# Altium schematic symbol library SCH - DIODES - DIODE TVS.SCHLIB: 2 symbols
Pins are listed as number, name and electrical type; pins without a type are passive.

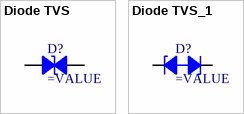
[diagram p0: symbols Diode TVS to Diode TVS_1]

## Diode TVS
designator D?
Zener Diode
pins: 1, 2

## Diode TVS_1
designator D?
Zener Diode
pins: 1, 2